# Altium footprint library PcbLib1.PcbLib: 19 footprints (part 2 of 2)
Each footprint in its own frame and in the unit in brackets; x right, y up, seen from the top. Pads: shape width x height; smd on the part's side, far side on the other; paste and mask are expansions set on the pad; w line width, h text height; cw(c..) or ccw(c..) is an arc to the next point about the centre after c.
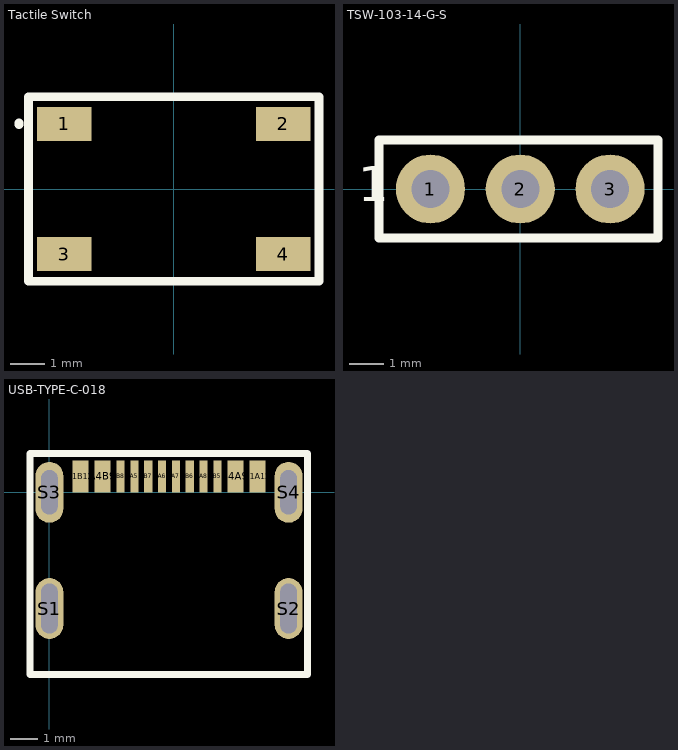
[diagram p1: the footprints below, top view; thin cyan lines are the x and y axes]

## Tactile Switch [mm] "Tactile Switch"
pads (4):
  rect 1.6x1 smd: 1(-3.2,1.9) 2(3.2,1.9) 3(-3.2,-1.9) 4(3.2,-1.9)
Top Overlay:
  lines w0.254: -4.521,1.88 -4.521,1.93 ; -4.242,-2.697 4.242,-2.697 4.242,2.692 -4.242,2.692 -4.242,-2.697
3D body "PTS525SM15SMTR2LFS.step": height 1.6, standoff 0, extent -3.2,-2.55 3.2,2.55

## TSW-103-14-G-S [mm] "TSW-103-14-G-S"
pads (3):
  round 2 hole 1.1: 1(-2.6,0) 2(0,0) 3(2.6,0)
Top Overlay:
  lines w0.254: -4.089,-1.422 3.988,-1.422 3.988,1.422 -4.089,1.422 -4.089,-1 -4.089,-1.422
  text "1" at -4.699,-0.356 h1.02
3D body "TSW-103-14-G-S.stp": height 10.67, standoff -2.79, extent -3.937,-1.27 3.81,1.27

## USB-TYPE-C-018 [mm] "USB-TYPE-C-018"
pads (16):
  rect 0.59x1.15 smd mask+0.064: A1B12(1.12,0.575) A4B9(1.92,0.575) B1A12(7.52,0.575) B4A9(6.72,0.575)
  rect 0.298x1.15 smd mask+0.064: A5(3.07,0.575) A6(4.07,0.575) A7(4.57,0.575) A8(5.57,0.575) B5(6.07,0.575) B6(5.07,0.575) B7(3.57,0.575) B8(2.57,0.575)
  oval 1x2.2 hole 0.6 slot 1.8 at 90 deg mask+0.064: S1(0,-4.2) S2(8.64,-4.2)
  oval 1x2.2 hole 0.6 slot 1.6 at 90 deg mask+0.064: S3(0,0) S4(8.64,0)
Top Overlay:
  lines w0.254: -0.703,-6.579 9.33,-6.579 9.33,1.397 6.917,1.397 1.837,1.397 -0.703,1.397 -0.703,-6.579
3D body "217179-0001.stp": height 3.24, standoff -0.82, extent -0.177,-6.423 8.763,0.327